# EAGLE library part MIC24013 (library Traficon)
CNRJ45F1-7 Created by CT on 28/07/10
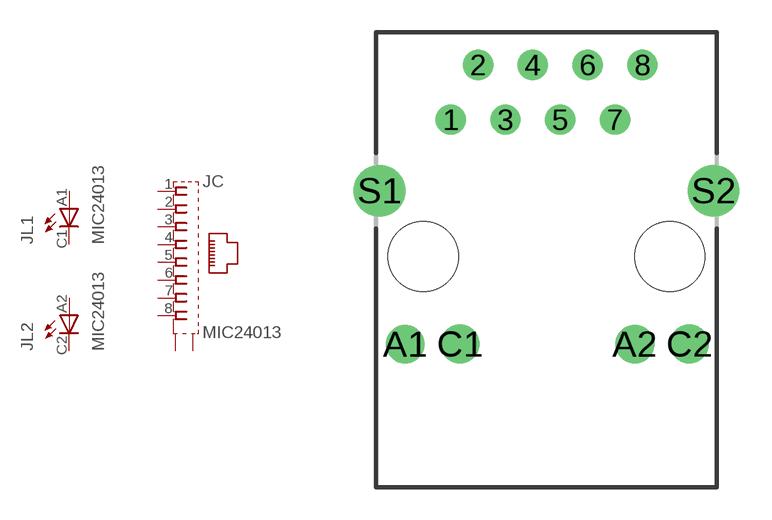
[diagram p259: symbol with the pads of MIC24013; footprint MIC24013]

Designator prefix J; gates C=JACK8SH-2 L1=LED L2=LED

## MIC24013  [MIC24013]
1  C:1  pas
2  C:2  pas
3  C:3  pas
4  C:4  pas
5  C:5  pas
6  C:6  pas
7  C:7  pas
8  C:8  pas
A1  L1:A  pas
A2  L2:A  pas
C1  L1:C  pas
C2  L2:C  pas
S1  C:S1  pas
S2  C:S2  pas

## Footprint MIC24013 (pad centres in mm)
drill 0.9 round: 1 -4.445,6.35; 2 -3.175,8.89; 3 -1.905,6.35; 4 -0.635,8.89; 5 0.635,6.35; 6 1.905,8.89; 7 3.175,6.35; 8 4.445,8.89
drill 1.2 round: A1 -6.549,-4.066; A2 4.089,-4.066; C1 -4.009,-4.06; C2 6.629,-4.06
drill 1.6 round: S1 -7.745,3.05; S2 7.745,3.05
hole 3.25 at -5.715,0
hole 3.25 at 5.715,0